# Altium footprint library UPS_pcb_lib.PcbLib: 23 footprints (part 1 of 2)
Each footprint in its own frame and in the unit in brackets; x right, y up, seen from the top. Pads: shape width x height; smd on the part's side, far side on the other; paste and mask are expansions set on the pad; w line width, h text height; cw(c..) or ccw(c..) is an arc to the next point about the centre after c.
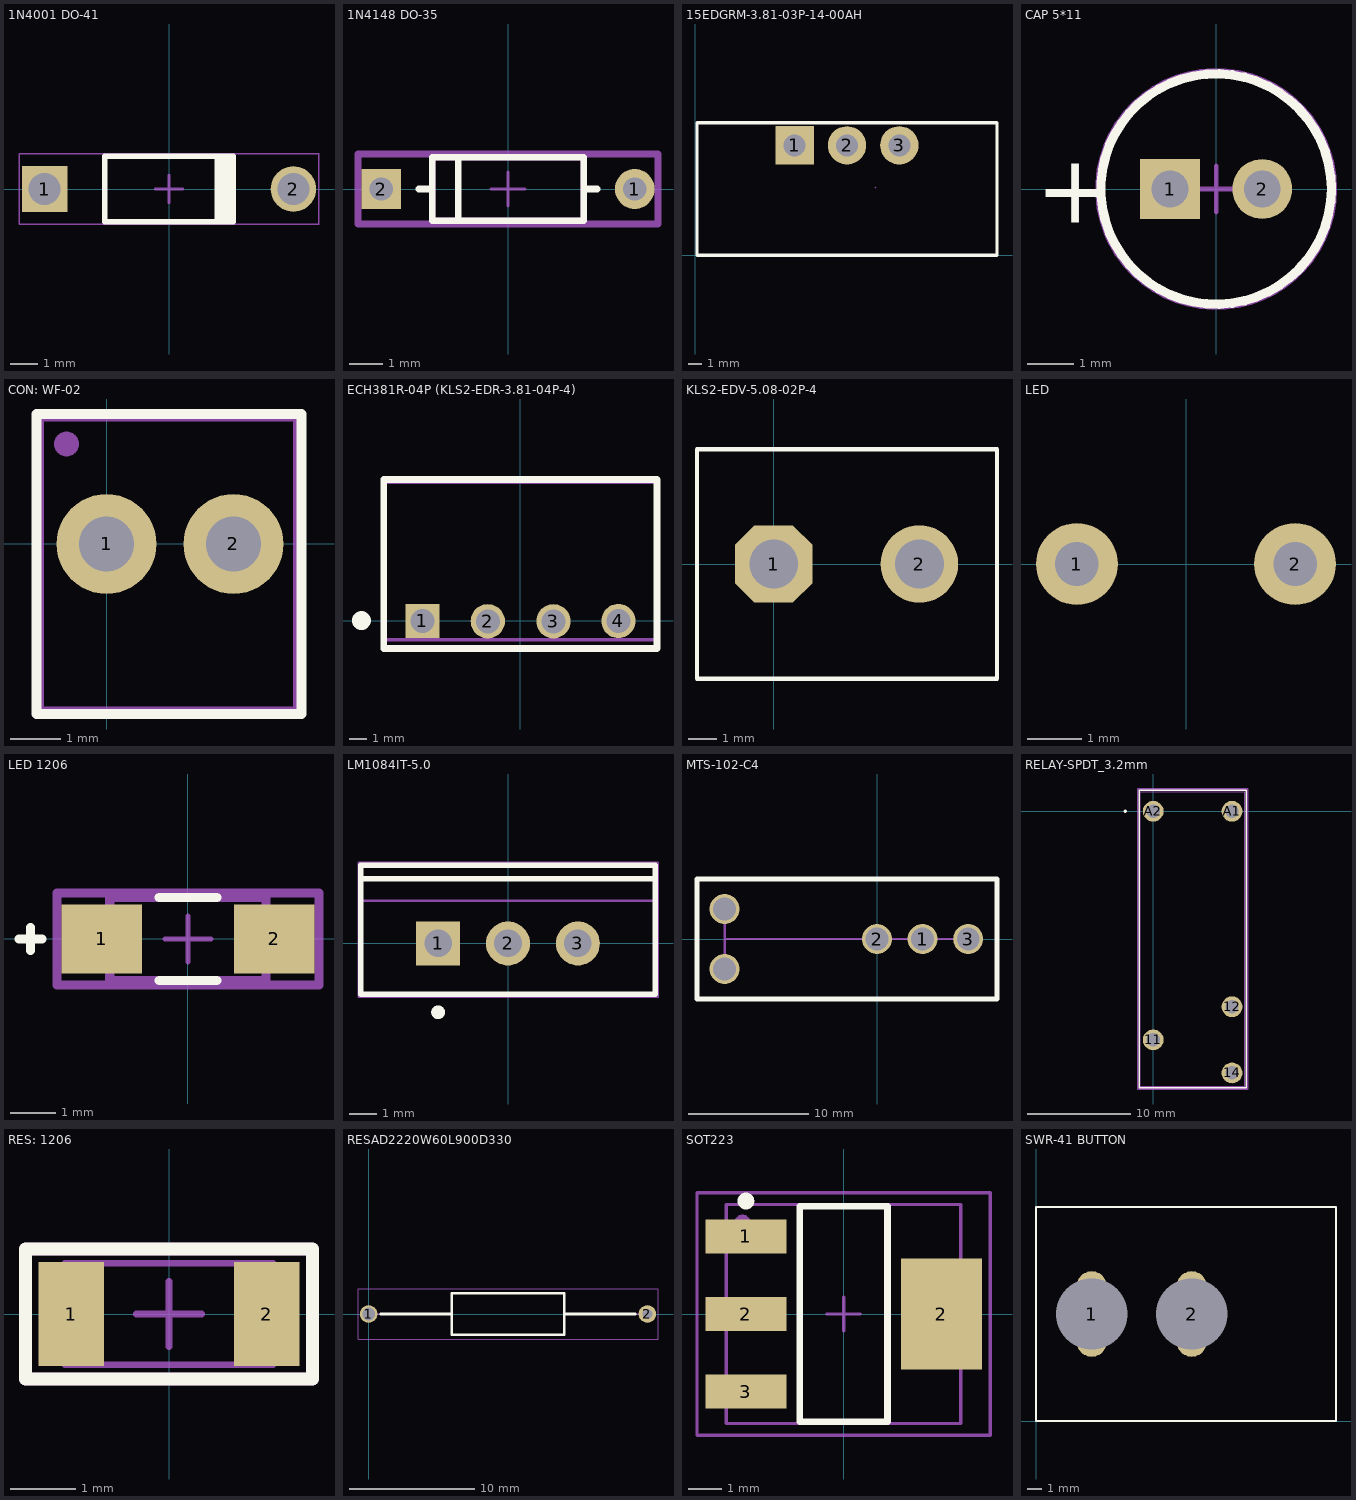
[diagram p0: the footprints below, top view; thin cyan lines are the x and y axes]

## 1N4001 DO-41 [mm] "2-Leads, Axial Lead, Body 4.635x2.36mm, Pin Spacing 9mm"
height 2.36
pads (2):
  rect 1.65x1.65 hole 1.15: 1(-4.5,0)
  round 1.65 hole 1.15: 2(4.5,0)
Top Overlay:
  rectangle: 1.651,-1.18 2.317,1.18
  lines w0.2: -2.318,-1.18 -2.318,1.18 2.318,1.18 2.318,-1.18 -2.318,-1.18
Mechanical 13:
  lines w0.1: -2.318,-1.18 2.318,-1.18 2.318,1.18 -2.318,1.18 -2.318,-1.18
Mechanical 15:
  lines w0.05: -5.425,-1.28 -5.425,1.28 5.425,1.28 5.425,-1.28 -5.425,-1.28
  lines w0.1: -0.5,0 0.5,0 ; 0,-0.5 0,0.5
3D body: height 2.35, standoff 0, extent -2.317,-1.18 2.317,1.175
3D body: height 1.18, standoff -2, extent 4.068,-0.431 4.929,0.431
3D body: height 1.61, standoff 0.75, extent 4.069,-0.43 4.929,0.43
3D body: height 1.61, standoff 0.75, extent 2.317,-0.431 4.499,0.431
3D body: height 1.61, standoff 0.75, extent -4.499,-0.431 -2.317,0.431
3D body: height 1.61, standoff 0.75, extent -4.929,-0.43 -4.069,0.43
3D body: height 1.18, standoff -2, extent -4.929,-0.431 -4.068,0.431

## 1N4148 DO-35 [mm]
pads (2):
  round 1.2 hole 0.7 paste-1000 mask+0: 1(3.813,0)
  rect 1.2x1.2 hole 0.7 paste-1000 mask+0: 2(-3.813,0)
Top Overlay:
  lines w0.2: -2.68,0 -2.28,0 ; -1.5,-0.855 -1.5,0.855 ; 2.28,0 2.68,0 ; -2.28,-0.955 2.28,-0.955 2.28,0.955 -2.28,0.955 -2.28,-0.955
Mechanical 5:
  lines w0.2: -4.513,-1.055 4.513,-1.055 4.513,1.055 -4.513,1.055 -4.513,-1.055
  text ".Designator" at 0,0.188 h1
Mechanical 13:
  lines w0.2: -2.28,-0.955 2.28,-0.955 2.28,0.955 -2.28,0.955 -2.28,-0.955
Mechanical 15:
  lines w0.2: -4.513,-1.055 4.513,-1.055 4.513,1.055 -4.513,1.055 -4.513,-1.055
Mechanical 16:
  lines w0.1: -0.5,0 0.5,0 ; 0,-0.5 0,0.5
3D body "Diode_ON_Semiconductor_1N914B_eec.STEP": height 0.25, standoff 0, extent -4.513,-1.055 4.513,1.055

## 15EDGRM-3.81-03P-14-00AH [mm]
pads (3):
  rect 2.8x2.8 hole 1.6: 1(7.227,8)
  round 2.8 hole 1.6: 2(11.037,8) 3(14.847,8)
Top Overlay:
  lines w0.254: 0.127,0 0.127,9.651 21.947,9.651 21.947,0 0.127,0
Mechanical 15:
  lines w0.003: 13.107,4.927 13.158,4.978

## CAP 5*11 [mm] "THD, 2-Leads, Dia 5mm, Body Length 11mm"
height 12
pads (2):
  rect 1.3x1.3 hole 0.8: 1(-1,0)
  round 1.3 hole 0.8: 2(1,0)
Top Overlay:
  circle w0.2: c0,0 r2.5
  text "+" at -3.908,-0.737 h1.5
Mechanical 13:
  circle w0.1: c0,0 r2.5
Mechanical 15:
  circle w0.05: c0,0 r2.6
  lines w0.1: -0.5,0 0.5,0 ; 0,-0.5 0,0.5
3D body: height 12, standoff 0, extent -2.499,-2.499 2.499,2.499

## CON: WF-02 [mm]
pads (3):
  round 2 hole 1.1: 1(0,0) 2(2.54,0)
  round 0.5 on Mech1: ""(-0.8,2)
Top Overlay:
  lines w0.2: -1.4,-3.4 -1.4,2.6 3.9,2.6 3.9,-3.4 -1.4,-3.4
Mechanical 1:
  lines w0.1: -1.3,-3.3 3.78,-3.3 3.78,2.5 -1.3,2.5 -1.3,-3.3
3D body "User Library-WF-02.STEP": height 11.5, standoff -3.3, extent -1.3,-3.3 3.78,2.5

## ECH381R-04P (KLS2-EDR-3.81-04P-4) [mm]
pads (4):
  rect 2x2 hole 1.4: 1(-5.715,0)
  round 2 hole 1.4: 2(-1.906,-0.015) 3(1.924,-0.015) 4(5.715,0)
Top Overlay:
  circle w0.7: c-9.275,0.025 r0.2
  lines w0.4: -7.975,-1.6 7.975,-1.6 7.975,8.25 -7.975,8.25 -7.975,-1.6
Mechanical 1:
  lines w0.2: -5.715,0 -5.7,0 ; 7.975,-1.1 8.025,-1.1 ; 8.025,-1.1 -8.025,-1.1 -8.025,8.1 8.025,8.1 8.025,-1.1

## KLS2-EDV-5.08-02P-4 [mm]
pads (2):
  oct 2.7x2.7 hole 1.7: 1(0,0)
  round 2.7 hole 1.7: 2(5.08,0)
Top Overlay:
  lines w0.15: -2.675,-4 7.785,-4 7.785,4 -2.675,4 -2.675,-4

## LED [mm]
pads (2):
  round 1.5 hole 0.8 mask+0.254: 1(-2,0) 2(2,0)

## LED 1206 [mm]
pads (2):
  rect 1.75x1.5 smd paste+0 mask+0: 1(-1.875,0) 2(1.875,0)
Top Overlay:
  lines w0.2: -3.675,0 -3.175,0 ; -3.425,-0.25 -3.425,0.25 ; -0.625,-0.9 0.625,-0.9 ; -0.625,0.9 0.625,0.9
Mechanical 5:
  lines w0.2: -2.85,-1 2.85,-1 2.85,1 -2.85,1 -2.85,-1
  text ".Designator" at 0,-0.001 h1
Mechanical 13:
  lines w0.2: -1.7,-0.9 1.7,-0.9 1.7,0.9 -1.7,0.9 -1.7,-0.9
Mechanical 15:
  lines w0.2: -2.85,-1 2.85,-1 2.85,1 -2.85,1 -2.85,-1
Mechanical 16:
  lines w0.1: -0.5,0 0.5,0 ; 0,-0.5 0,0.5
3D body "Diode_Kingbright_KP-3216PBC-A_eec.STEP": height 0.25, standoff 0, extent -2.85,-1 2.85,1

## LM1084IT-5.0 [mm] "FM, 3-Leads, Body 10.7x4.7mm, Pitch 2.54mm"
height 19.4
pads (3):
  rect 1.6x1.6 hole 1: 1(-2.54,0)
  round 1.6 hole 1: 2(0,0) 3(2.54,0)
Top Overlay:
  circle w0.25: c-2.54,-2.5 r0.125
  lines w0.2: -5.35,2.35 5.35,2.35 ; -5.35,-1.85 5.35,-1.85 5.35,2.85 -5.35,2.85 -5.35,-1.85
Mechanical 1:
  text ".Designator" at -1.524,-0.508 h1.02
Mechanical 13:
  lines w0.1: -5.35,1.55 5.35,1.55 ; -5.35,-1.85 5.35,-1.85 5.35,2.85 -5.35,2.85 -5.35,-1.85
Mechanical 15:
  lines w0.05: -5.45,-1.95 -5.45,2.95 5.45,2.95 5.45,-1.95 -5.45,-1.95
  lines w0.1: -0.5,0 0.5,0 ; 0,-0.5 0,0.5
3D body: height 19.4, standoff 12.9, extent -5.349,1.551 5.349,2.849
3D body: height 12.9, standoff 4, extent -5.4,-1.9 5.4,2.9

## MTS-102-C4 [mm]
pads (5):
  round 2.5 hole 1.9: 1(3.8,0) 2(0,0) 3(7.6,0) ""(-12.7,-2.5) ""(-12.7,2.5)
Top Overlay:
  lines w0.4: -15,-5 10,-5 10,5 -15,5 -15,-5
Mechanical 1:
  lines w0.2: -15,-5 10,-5 10,5 -15,5 -15,-5
Mechanical 15:
  lines w0.2: -12.7,-2.5 -12.7,0 ; -12.7,2.5 -12.7,0 ; 7.6,0 3.8,0 0,0 -12.7,0

## RELAY-SPDT_3.2mm [mil]
pads (5):
  round 79 hole 51 mask+4.02: 11(0,-870.08) 12(300,-744.09) 14(300,-996.06) A1(300,0)
  round 79 hole 51 paste+0 mask+4.02: A2(0,0)
Top Overlay:
  circle w6: c-106.49,0 r3
  lines w6: -54,-1052.2 354,-1052.2 354,79.8 -54,79.8 -54,-1052.2
Mechanical 13:
  lines w1: -49,-1047.2 349,-1047.2 349,74.8 -49,74.8 -49,-1047.2
Mechanical 15:
  lines w6: -59,-1057.2 -59,84.8 359,84.8 359,-1057.2 -59,-1057.2

## RES: 1206 [mm]
height 0.6
pads (2):
  rect 1x1.6 smd: 1(-1.5,0) 2(1.5,0)
Top Overlay:
  lines w0.2: -2.2,-1 -2.2,1 2.2,1 2.2,-1 -2.2,-1
Mechanical 1:
  lines w0.1: -1.6,-0.775 -1.6,0.775 1.6,0.775 1.6,-0.775 -1.6,-0.775
Mechanical 13:
  lines w0.2: -2.2,-1 2.2,-1 2.2,1 -2.2,1 -2.2,-1
Mechanical 15:
  lines w0.1: -0.5,0 0.5,0 ; 0,-0.5 0,0.5 ; -2.2,-1 2.2,-1 2.2,1 -2.2,1 -2.2,-1
3D body "chip_1206_r.STEP": height 0.47, standoff -0.03, extent -1.65,-0.8 1.55,0.8

## RESAD2220W60L900D330 [mm]
pads (2):
  round 1.4 hole 1: 1(0,0)
  round 1.4 hole 0.8: 2(22.2,0)
Top Overlay:
  lines w0.2: 0.95,0 6.6,0 ; 15.6,0 21.25,0 ; 6.6,-1.65 6.6,1.65 15.6,1.65 15.6,-1.65 6.6,-1.65
Mechanical 13:
  lines w0.1: 0,0 6.6,0 ; 15.6,0 22.2,0 ; 6.6,-1.65 6.6,1.65 15.6,1.65 15.6,-1.65 6.6,-1.65
Mechanical 15:
  lines w0.05: -0.85,-2 -0.85,2 23.05,2 23.05,-2 -0.85,-2
3D body "CFR-50JT-52-470R.stp": height 3.6, standoff -3.6, extent -0.298,-1.8 22.5,1.8

## SOT223 [mm] "SOT223, 4-Leads, Body 6,50x7,00mm (avg), Pitch 2,30mm, IPC Medium Density"
height 1.8
pads (5):
  rect 2.4x1 smd: 1(-2.9,2.3) 2(-2.9,0) 3(-2.9,-2.3)
  rect 2.4x3.3 smd: 2(2.9,0)
  round 0.5 on Mech1: ""(-3,2.7)
Top Overlay:
  circle w0.25: c-2.9,3.35 r0.125
  lines w0.2: -1.3,-3.2 -1.3,3.2 1.3,3.2 1.3,-3.2 -1.3,-3.2
Mechanical 1:
  lines w0.1: -3.48,-3.25 3.48,-3.25 3.48,3.25 -3.48,3.25 -3.48,-3.25
Mechanical 15:
  lines w0.1: -0.5,0 0.5,0 ; 0,-0.5 0,0.5 ; -4.35,-3.6 -4.35,3.6 4.35,3.6 4.35,-3.6 -4.35,-3.6
3D body "SOT-223-3.step": height 1.65, standoff -0.03, extent -3.48,-3.25 3.48,3.25

## SWR-41 BUTTON [mm]
pads (2):
  oval 2.1x6 hole 5 square paste+0 mask+0.5: 1(3.9,7.5) 2(10.9,7.5)
Top Overlay:
  lines w0.15: 0,0 21,0 21,15 0,15 0,0